# Altium footprint library TZJLIB.PcbLib: 76 footprints (part 5 of 5)
Each footprint in its own frame and in the unit in brackets; x right, y up, seen from the top. Pads: shape width x height; smd on the part's side, far side on the other; paste and mask are expansions set on the pad; w line width, h text height; cw(c..) or ccw(c..) is an arc to the next point about the centre after c.
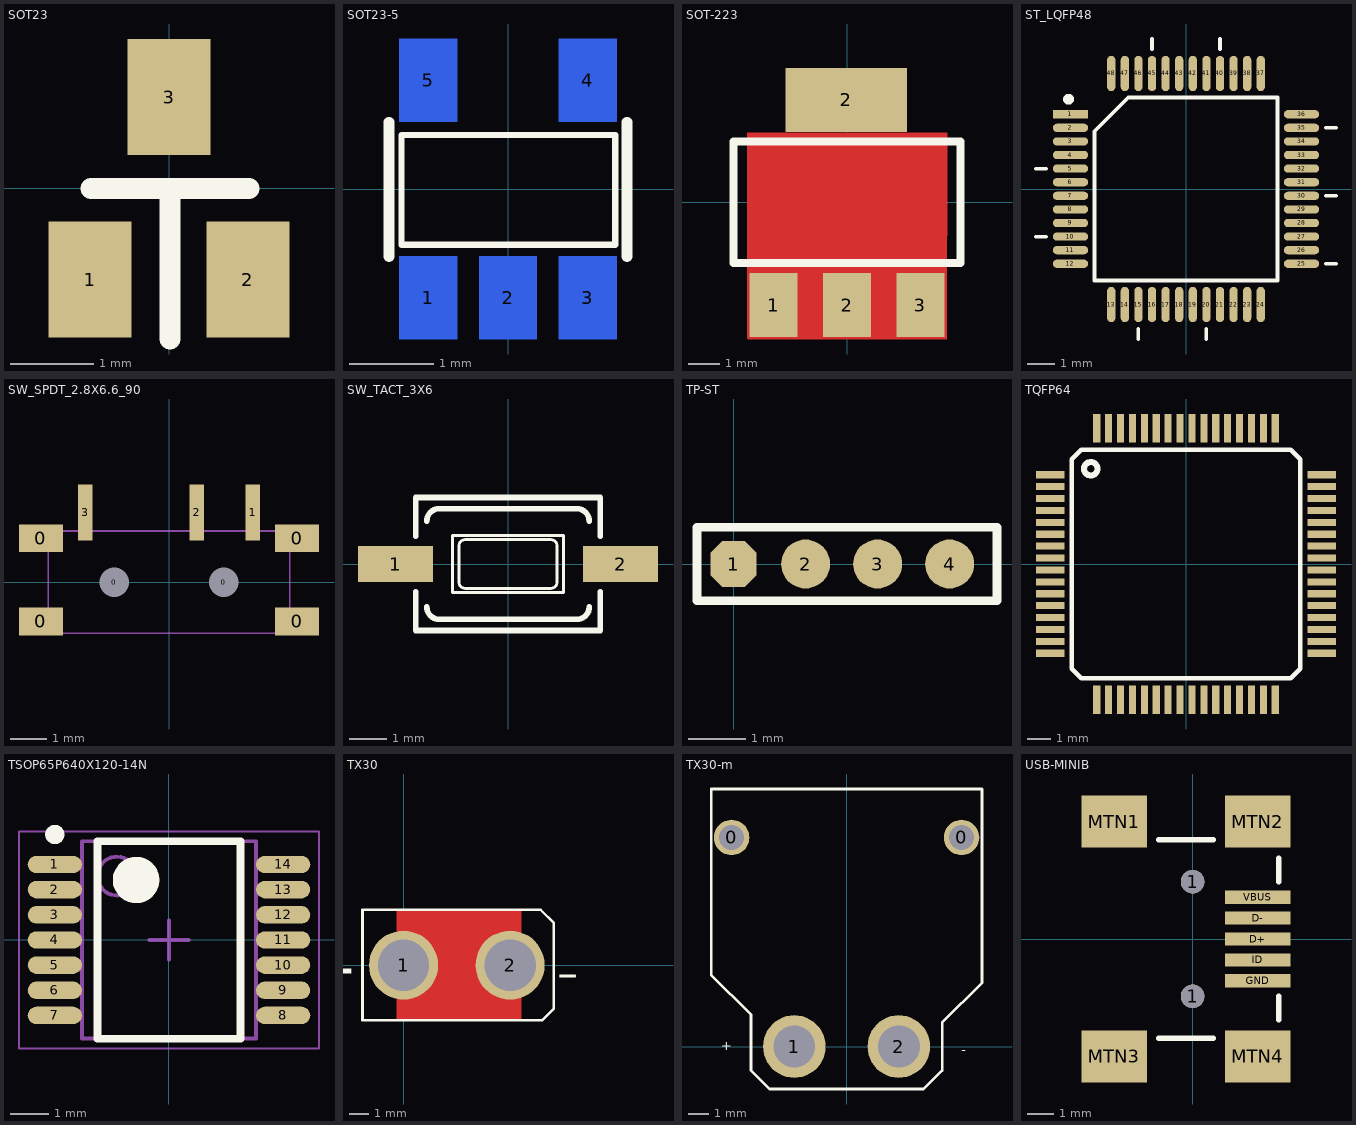
[diagram p4: the footprints below, top view; thin cyan lines are the x and y axes]

## SOT23 [mm] "SOT23"
pads (3):
  rect 1x1.4 smd: 1(-0.95,-1.1) 2(0.95,-1.1) 3(0,1.1)
Top Overlay:
  lines w0.254: -0.94,0 0.965,0 ; 0.013,-1.816 0.013,0

## SOT23-5 [mm] "SOT23-5"
pads (5):
  rect 0.69x0.99 smd far side: 1(-0.95,-1.29) 2(0,-1.29) 3(0.95,-1.29) 4(0.95,1.3) 5(-0.95,1.3)
Top Overlay:
  lines w0.075: -1.27,-0.66 -1.27,0.65 1.28,0.65 1.28,-0.66 -1.27,-0.66
  lines w0.127: -1.42,-0.8 -1.42,0.8 ; 1.42,-0.8 1.42,0.8

## SOT-223 [mil]
height 31.5
pads (4):
  rect 59x79 smd: 1(-90.55,-126.77) 2(0,-126.77) 3(90.55,-126.77)
  rect 150x79 smd: 2(-0.67,126.77)
Top Layer:
  pour cut-out: 123,-168.5 -122,-168.5 -123,-167.5 -123,86 124,86
Top Overlay:
  lines w10: -140,-74.77 140,-74.77 140,75.23 -140,75.23 -140,-74.77

## ST_LQFP48 [mm]
height 0.8
pads (48):
  rect 1.3x0.3 smd: 1(-4.25,2.75)
  oval 1.3x0.3 smd: 2(-4.25,2.25) 3(-4.25,1.75) 4(-4.25,1.25) 5(-4.25,0.75) 6(-4.25,0.25) 7(-4.25,-0.25) 8(-4.25,-0.75) 9(-4.25,-1.25) 10(-4.25,-1.75) 11(-4.25,-2.25) 12(-4.25,-2.75) 25(4.25,-2.75) 26(4.25,-2.25) 27(4.25,-1.75) 28(4.25,-1.25) 29(4.25,-0.75) 30(4.25,-0.25) 31(4.25,0.25) 32(4.25,0.75) 33(4.25,1.25) 34(4.25,1.75) 35(4.25,2.25) 36(4.25,2.75)
  oval 0.3x1.3 smd: 13(-2.75,-4.25) 14(-2.25,-4.25) 15(-1.75,-4.25) 16(-1.25,-4.25) 17(-0.75,-4.25) 18(-0.25,-4.25) 19(0.25,-4.25) 20(0.75,-4.25) 21(1.25,-4.25) 22(1.75,-4.25) 23(2.25,-4.25) 24(2.75,-4.25) 37(2.75,4.25) 38(2.25,4.25) 39(1.75,4.25) 40(1.25,4.25) 41(0.75,4.25) 42(0.25,4.25) 43(-0.25,4.25) 44(-0.75,4.25) 45(-1.25,4.25) 46(-1.75,4.25) 47(-2.25,4.25) 48(-2.75,4.25)
Top Overlay:
  circle w0.2: c-4.318,3.302 r0.1
  lines w0.13: -5.517,-1.75 -5.136,-1.75 ; -5.517,0.75 -5.136,0.75 ; -1.75,-5.517 -1.75,-5.136 ; -1.25,5.136 -1.25,5.517 ; 0.75,-5.517 0.75,-5.136 ; 1.25,5.136 1.25,5.517 ; 5.136,-2.75 5.517,-2.75 ; 5.136,-0.25 5.517,-0.25 ; 5.136,2.25 5.517,2.25 ; -3.365,-3.365 -3.365,2.13 -2.13,3.365 3.365,3.365 3.365,-3.365 -3.365,-3.365

## SW_SPDT_2.8X6.6_90 [mm]
pads (9):
  rect 1.2x0.762 smd: 0(-3.5,-1.073) 0(-3.5,1.2) 0(3.5,-1.073) 0(3.5,1.2)
  round 0.254 hole 0.8: 0(-1.5,0) 0(1.5,0)
  rect 0.4x1.524 smd: 1(2.286,1.905) 2(0.762,1.905) 3(-2.286,1.905)
Mechanical 13:
  lines w0.051: -3.302,-1.397 3.302,-1.397 3.302,1.397 -3.302,1.397 -3.302,-1.397

## SW_TACT_3X6 [mil] "SW_TACT_3X6"
pads (2):
  rect 80x38 smd: 1(-120,0) 2(120,0)
Top Overlay:
  lines w3: -59.06,-30.32 59.06,-30.32 59.06,30.32 -59.06,30.32 -59.06,-30.32 ; -52.36,-19.29 ccw(c-45.67,-19.29) -45.67,-25.98 45.67,-25.98 ccw(c45.67,-19.29) 52.36,-19.29 52.36,19.29 ccw(c45.67,19.29) 45.67,25.98 -45.67,25.98 ccw(c-45.67,19.29) -52.36,19.29 -52.36,-19.29
  lines w6: -98.43,-29.69 -98.43,-70.87 98.43,-70.87 98.43,-29.69 ; -98.43,29.69 -98.43,70.87 98.43,70.87 98.43,29.69 ; -86.61,-45.67 ccw(c-73.22,-45.67) -73.23,-59.06 73.23,-59.06 ccw(c73.22,-45.67) 86.61,-45.67 ; -86.61,45.67 cw(c-73.22,45.67) -73.23,59.06 73.23,59.06 cw(c73.22,45.67) 86.61,45.67

## TP-ST [mm]
height 0.8
pads (4):
  oct 0.8x0.8 smd: 1(0,0)
  round 0.85 smd: 2(1.25,0) 3(2.5,0) 4(3.75,0)
Top Overlay:
  lines w0.15: -0.635,-0.635 -0.635,0.635 4.572,0.635 4.572,-0.635 -0.635,-0.635

## TQFP64 [mm] "TQFP64"
pads (64):
  rect 1.2x0.3 smd: 1(-5.7,3.75) 2(-5.7,3.25) 3(-5.7,2.75) 4(-5.7,2.25) 5(-5.7,1.75) 6(-5.7,1.25) 7(-5.7,0.75) 8(-5.7,0.25) 9(-5.7,-0.25) 10(-5.7,-0.75) 11(-5.7,-1.25) 12(-5.7,-1.75) 13(-5.7,-2.25) 14(-5.7,-2.75) 15(-5.7,-3.25) 16(-5.7,-3.75) 33(5.7,-3.75) 34(5.7,-3.25) 35(5.7,-2.75) 36(5.7,-2.25) 37(5.7,-1.75) 38(5.7,-1.25) 39(5.7,-0.75) 40(5.7,-0.25) 41(5.7,0.25) 42(5.7,0.75) 43(5.7,1.25) 44(5.7,1.75) 45(5.7,2.25) 46(5.7,2.75) 47(5.7,3.25) 48(5.7,3.75)
  rect 0.3x1.2 smd: 17(-3.75,-5.7) 18(-3.25,-5.7) 19(-2.75,-5.7) 20(-2.25,-5.7) 21(-1.75,-5.7) 22(-1.25,-5.7) 23(-0.75,-5.7) 24(-0.25,-5.7) 25(0.25,-5.7) 26(0.75,-5.7) 27(1.25,-5.7) 28(1.75,-5.7) 29(2.25,-5.7) 30(2.75,-5.7) 31(3.25,-5.7) 32(3.75,-5.7) 49(3.75,5.7) 50(3.25,5.7) 51(2.75,5.7) 52(2.25,5.7) 53(1.75,5.7) 54(1.25,5.7) 55(0.75,5.7) 56(0.25,5.7) 57(-0.25,5.7) 58(-0.75,5.7) 59(-1.25,5.7) 60(-1.75,5.7) 61(-2.25,5.7) 62(-2.75,5.7) 63(-3.25,5.7) 64(-3.75,5.7)
Top Overlay:
  circle w0.254: c-4,4 r0.283
  lines w0.203: -4.8,-4.4 -4.4,-4.8 4.4,-4.8 4.8,-4.4 4.8,4.4 4.4,4.8 -4.4,4.8 -4.8,4.4 -4.8,-4.4

## TSOP65P640X120-14N [mm] "TSOP, 14-Leads, Body 5.00x4.40mm, Pitch 0.65mm, IPC Medium Density"
height 1.2
pads (14):
  oval 1.4x0.45 smd: 1(-2.95,1.95) 2(-2.95,1.3) 3(-2.95,0.65) 4(-2.95,0) 5(-2.95,-0.65) 6(-2.95,-1.3) 7(-2.95,-1.95) 8(2.95,-1.95) 9(2.95,-1.3) 10(2.95,-0.65) 11(2.95,0) 12(2.95,0.65) 13(2.95,1.3) 14(2.95,1.95)
Top Overlay:
  circle w0.6: c-0.85,1.55 r0.3
  circle w0.25: c-2.95,2.725 r0.125
  lines w0.2: -1.85,-2.55 1.85,-2.55 1.85,2.55 -1.85,2.55 -1.85,-2.55
Mechanical 13:
  circle w0.1: c-1.35,1.65 r0.5
  lines w0.1: -2.25,-2.55 2.25,-2.55 2.25,2.55 -2.25,2.55 -2.25,-2.55
Mechanical 15:
  lines w0.05: -3.875,-2.8 3.875,-2.8 3.875,2.8 -3.875,2.8 -3.875,-2.8
  lines w0.1: -0.5,0 0.5,0 ; 0,-0.5 0,0.5
3D body: height 1.2, standoff 0.15, extent -2.25,-2.55 2.25,2.55

## TX30 [mm]
pads (2):
  round 3.5 hole 2.6: 1(0,0) 2(5.4,0)
Top Layer:
  pour cut-out: -0.313,2.781 -0.339,2.756 -0.339,-2.807 5.935,-2.807 5.961,-2.781 5.961,2.794
Top Overlay:
  lines w0.13: -2.084,2.807 6.951,2.807 7.62,2.138 7.62,-2.189 7.027,-2.781 -2.078,-2.781 -2.078,2.819
  text "+" at -2.307,1.46 h4
  text "-" at 8.89,1.016 h4

## TX30-m [mm]
pads (4):
  round 1.7 hole 1.2: 0(-5.5,10) 0(5.5,10)
  round 3 hole 2: 1(-2.5,0) 2(2.5,0)
Top Overlay:
  lines w0.13: -6.477,3.429 -6.477,12.319 6.477,12.319 6.477,3.048 4.572,1.143 4.572,-1.143 3.683,-2.032 -3.683,-2.032 -4.572,-1.143 -4.572,1.524 -6.477,3.429
  text "-" at 5.715,0.127 h0.8
  text "+" at -5.461,0.381 h0.8

## USB-MINIB [mm] "USB-MINIB"
pads (11):
  round 0.9 hole 0.9: 1(0,-2.2) 1(0,2.2)
  rect 2.5x0.5 smd: D+(2.5,0) D-(2.5,0.8) GND(2.5,-1.6) ID(2.5,-0.8) VBUS(2.5,1.6)
  rect 2.5x2 smd: MTN1(-3,4.5) MTN2(2.5,4.5) MTN3(-3,-4.5) MTN4(2.5,-4.5)
Top Overlay:
  lines w0.203: -1.3,-3.8 0.8,-3.8 ; -1.3,3.8 0.8,3.8 ; 3.3,-3.1 3.3,-2.2 ; 3.3,2.2 3.3,3.1